# EAGLE library part ESP32S3 (library esp32s3)
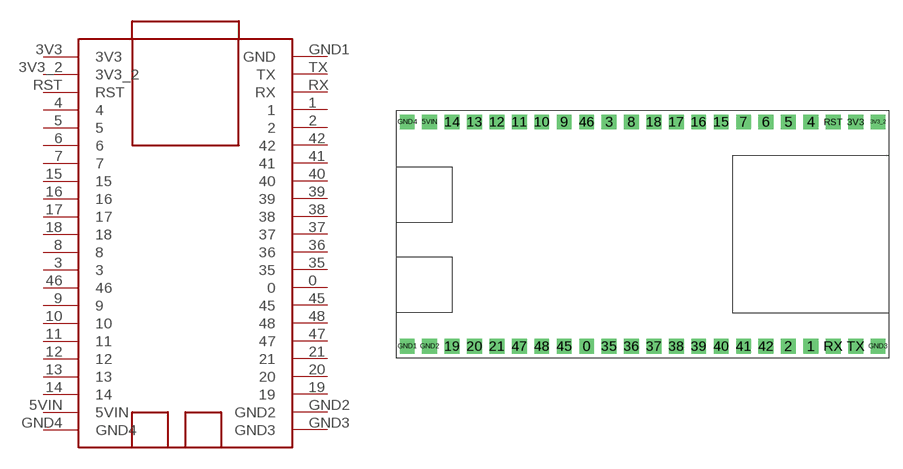
[diagram p0: symbol with the pads of ESP32S3; footprint ESP32S3]

Designator prefix -

## ESP32S3  [ESP32S3]
0  0
1  1
2  2
3  3
3V3  3V3
3V3_2  3V3_2
4  4
5  5
5VIN  5VIN
6  6
7  7
8  8
9  9
10  10
11  11
12  12
13  13
14  14
15  15
16  16
17  17
18  18
19  19
20  20
21  21
35  35
36  36
37  37
38  38
39  39
40  40
41  41
42  42
45  45
46  46
47  47
48  48
GND1  GND
GND2  GND2
GND3  GND3
GND4  GND4
RST  RST
RX  RX
TX  TX

## Footprint ESP32S3 (pad centres in mm)
drill 1 pad 1.676 square: 0 20.32,-25.4; 1 45.72,-25.4; 2 43.18,-25.4; 3 22.86,0; 3V3 50.8,0; 3V3_2 53.34,0; 4 45.72,0; 5 43.18,0; 5VIN 2.54,0; 6 40.64,0; 7 38.1,0; 8 25.4,0; 9 17.78,0; 10 15.24,0; 11 12.7,0; 12 10.16,0; 13 7.62,0; 14 5.08,0; 15 35.56,0; 16 33.02,0; 17 30.48,0; 18 27.94,0; 19 5.08,-25.4; 20 7.62,-25.4; 21 10.16,-25.4; 35 22.86,-25.4; 36 25.4,-25.4; 37 27.94,-25.4; 38 30.48,-25.4; 39 33.02,-25.4; 40 35.56,-25.4; 41 38.1,-25.4; 42 40.64,-25.4; 45 17.78,-25.4; 46 20.32,0; 47 12.7,-25.4; 48 15.24,-25.4; GND1 0,-25.4; GND2 2.54,-25.4; GND3 53.34,-25.4; GND4 0,0; RST 48.26,0; RX 48.26,-25.4; TX 50.8,-25.4